# Altium footprint library IC_XTR111AIDGQR.PcbLib: 1 footprints
Each footprint in its own frame and in the unit in brackets; x right, y up, seen from the top. Pads: shape width x height; smd on the part's side, far side on the other; paste and mask are expansions set on the pad; w line width, h text height; cw(c..) or ccw(c..) is an arc to the next point about the centre after c.
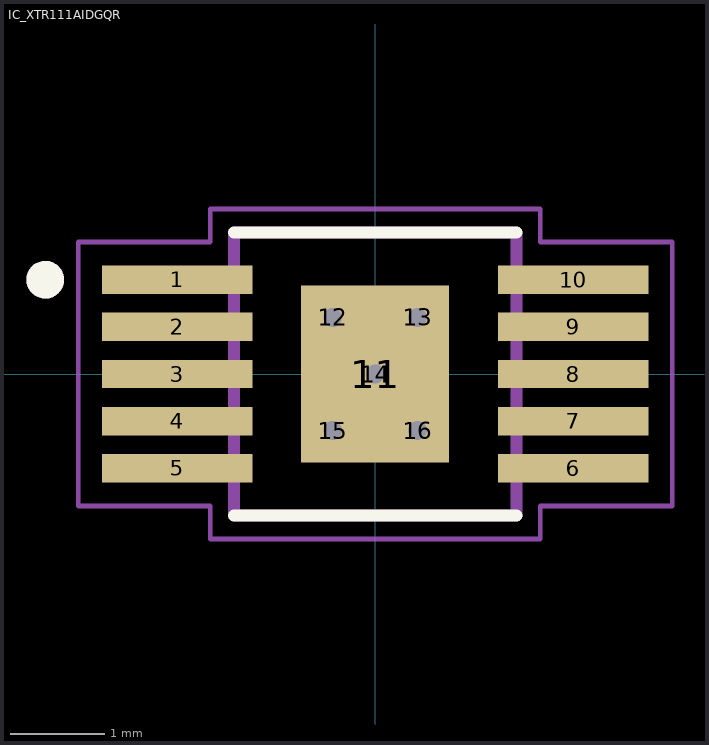
[diagram p0: the footprint, top view; thin cyan lines are the x and y axes]

## IC_XTR111AIDGQR [mm]
pads (16):
  rect 1.6x0.3 smd paste-2 mask+0: 1(-2.1,1) 2(-2.1,0.5) 3(-2.1,0) 4(-2.1,-0.5) 5(-2.1,-1) 6(2.1,-1) 7(2.1,-0.5) 8(2.1,0) 9(2.1,0.5) 10(2.1,1)
  rect 1.57x1.88 smd: 11(0,0)
  round 0.4 hole 0.2 mask+0: 12(-0.45,0.6) 13(0.45,0.6) 14(0,0) 15(-0.45,-0.6) 16(0.45,-0.6)
Top Overlay:
  circle w0.2: c-3.5,1 r0.1
  lines w0.127: -1.5,-1.5 1.5,-1.5 ; -1.5,1.5 1.5,1.5
Top Paste:
  region: 2.875,0.875 1.325,0.875 1.325,1.125 2.875,1.125
  region: 2.875,0.375 1.325,0.375 1.325,0.625 2.875,0.625
  region: 2.875,-0.125 1.325,-0.125 1.325,0.125 2.875,0.125
  region: 2.875,-0.625 1.325,-0.625 1.325,-0.375 2.875,-0.375
  region: 2.875,-1.125 1.325,-1.125 1.325,-0.875 2.875,-0.875
  region: -1.325,-1.125 -2.875,-1.125 -2.875,-0.875 -1.325,-0.875
  region: -1.325,-0.625 -2.875,-0.625 -2.875,-0.375 -1.325,-0.375
  region: -1.325,-0.125 -2.875,-0.125 -2.875,0.125 -1.325,0.125
  region: -1.325,0.375 -2.875,0.375 -2.875,0.625 -1.325,0.625
  region: -1.325,0.875 -2.875,0.875 -2.875,1.125 -1.325,1.125
Top Solder:
  region: 2.95,0.8 1.25,0.8 1.25,1.2 2.95,1.2
  region: 2.95,0.3 1.25,0.3 1.25,0.7 2.95,0.7
  region: 2.95,-0.2 1.25,-0.2 1.25,0.2 2.95,0.2
  region: 2.95,-0.7 1.25,-0.7 1.25,-0.3 2.95,-0.3
  region: 2.95,-1.2 1.25,-1.2 1.25,-0.8 2.95,-0.8
  region: -1.25,-1.2 -2.95,-1.2 -2.95,-0.8 -1.25,-0.8
  region: -1.25,-0.7 -2.95,-0.7 -2.95,-0.3 -1.25,-0.3
  region: -1.25,-0.2 -2.95,-0.2 -2.95,0.2 -1.25,0.2
  region: -1.25,0.3 -2.95,0.3 -2.95,0.7 -1.25,0.7
  region: -1.25,0.8 -2.95,0.8 -2.95,1.2 -1.25,1.2
Mechanical 13:
  circle w0.2: c-3.5,1 r0.1
  lines w0.127: -1.5,-1.5 1.5,-1.5 1.5,1.5 -1.5,1.5 -1.5,-1.5
Mechanical 15:
  lines w0.05: -3.15,-1.4 -1.75,-1.4 -1.75,-1.75 1.75,-1.75 1.75,-1.4 3.15,-1.4 3.15,1.4 1.75,1.4 1.75,1.75 -1.75,1.75 -1.75,1.4 -3.15,1.4 -3.15,-1.4